# EAGLE library part AOZ1284* (library AOZ1284)
The AOZ1284 is a current-mode step down regulator with integrated high side NMOS switch. It operates from a 3V to 36V input voltage range and supplies up to 4A of load current. Features include enable control, Power-On Reset, input under voltage lockout, external soft-start and thermal shut down. The AOZ1284 is available in EPAD SO-8 package. Temperature range: -40°C to +85°C Packing: 12mm Tape&Reel 3000pcs
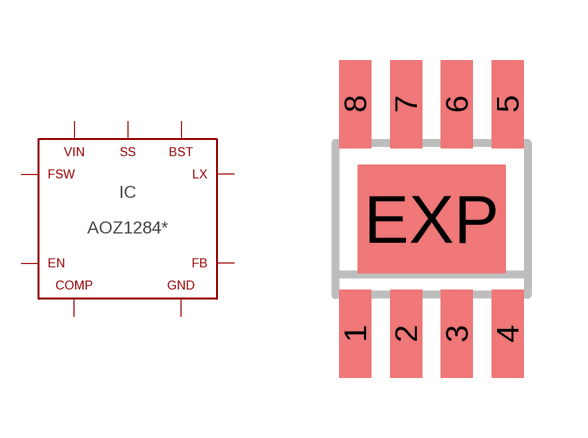
[diagram p0: symbol with the pads of SO-8; footprint SO-8]

Designator prefix IC

## AOZ1284PI, AOZ1284PI-1  [SO-8]
1  LX
2  BS
3  GND
4  FSW
5  COMP
6  FB
7  SS
8  EN
EXP  VIN

## Footprint SO-8 (pad centres in mm)
SO-8 EP1 Based on recommended land pattern
smd 0.8 x 2.2: 1 -1.905,-2.87; 2 -0.635,-2.87; 3 0.635,-2.87; 4 1.905,-2.87; 5 1.905,2.87; 6 0.635,2.87; 7 -0.635,2.87; 8 -1.905,2.87
smd 3.7 x 2.71: EXP 0,0